# Altium footprint library 1_to_5_Pin.PcbLib: 174 footprints (part 5 of 11)
Each footprint in its own frame and in the unit in brackets; x right, y up, seen from the top. Pads: shape width x height; smd on the part's side, far side on the other; paste and mask are expansions set on the pad; w line width, h text height; cw(c..) or ccw(c..) is an arc to the next point about the centre after c.
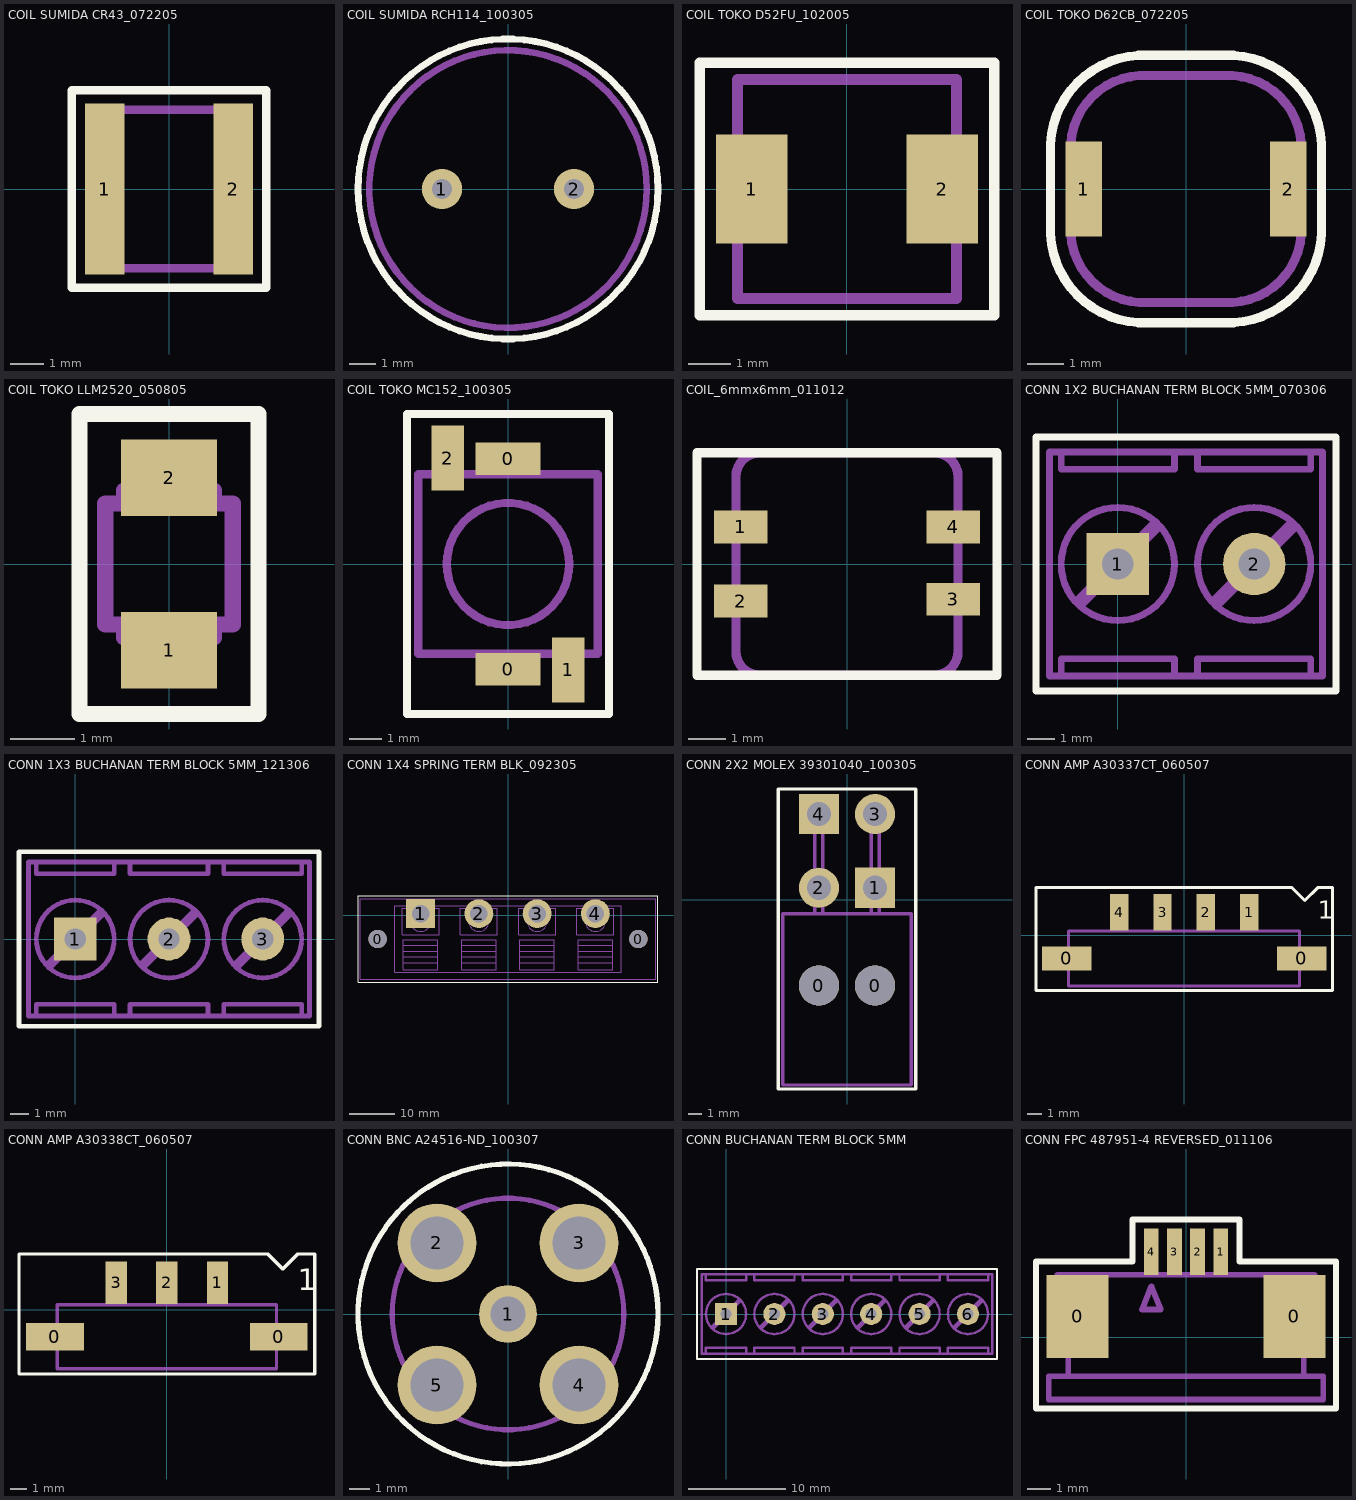
[diagram p4: the footprints below, top view; thin cyan lines are the x and y axes]

## COIL SUMIDA CR43_072205 [mm] "SMT"
height 3.5
pads (2):
  rect 1.2x5.2 smd: 1(-1.95,0) 2(1.95,0)
Top Overlay:
  lines w0.254: -2.95,-3 -2.95,0 -2.95,3 0,3 2.95,3 2.95,0 2.95,-3 0,-3 -2.95,-3
Assembly Outline:
  lines w0.254: 0,2.4 -2.15,2.4 ; -2.15,2.4 -2.15,-2.4 2.15,-2.4 2.15,2.4 -2.15,2.4
Assembly Designator:
  text ".Designator" at -0.875,-0.375 h1.02
Assembly Comment:
  text ".Comment" at -3.225,-4.275 h1.02

## COIL SUMIDA RCH114_100305 [mil] "TH"
height 566.93
pads (2):
  round 60 hole 30: 1(-98.43,0) 2(98.43,0)
Top Overlay:
  circle w10: c0,0 r223.43
Assembly Outline:
  circle w10: c0,0 r206.69
Assembly Designator:
  text ".Designator" at -30.51,-14.76 h40
Assembly Comment:
  text ".Comment" at -149.61,-97.44 h40

## COIL TOKO D52FU_102005 [mm] "SMT"
height 2.2
pads (2):
  rect 1.7x2.6 smd: 1(-2.262,0) 2(2.263,0)
Top Overlay:
  lines w0.254: -3.5,-3 -3.5,0 -3.5,3 2.375,3 3.5,3 3.5,0 3.5,-3 -2.375,-3 -3.5,-3
Assembly Outline:
  lines w0.254: -2.6,-2.6 0,-2.6 2.6,-2.6 2.6,0 2.6,2.6 0,2.6 -2.6,2.6 -2.6,0 -2.6,-2.6
Assembly Designator:
  text ".Designator" at -0.8,-0.35 h1.02
Assembly Comment:
  text ".Comment" at -3.375,-4.375 h1.02

## COIL TOKO D62CB_072205 [mm] "SMT"
height 2.5
pads (2):
  rect 1x2.6 smd: 1(-2.8,0) 2(2.8,0)
Top Overlay:
  lines w0.254: -3.702,-0.969 ccw(c-1.162,-1.112) -1.306,-3.652 1.306,-3.652 ccw(c1.162,-1.112) 3.702,-0.969 3.702,0.969 ccw(c1.162,1.112) 1.306,3.652 -1.306,3.652 ccw(c-1.162,1.112) -3.702,0.969 -3.702,-0.969
Assembly Outline:
  lines w0.254: -3.15,-1 ccw(c-1.163,-1.113) -1.275,-3.1 1.275,-3.1 ccw(c1.163,-1.113) 3.15,-1 3.15,1 ccw(c1.163,1.113) 1.275,3.1 -1.275,3.1 ccw(c-1.163,1.113) -3.15,1 -3.15,-1
Assembly Designator:
  text ".Designator" at -1.35,-0.35 h1.02
Assembly Comment:
  text ".Comment" at -3.4,-4.725 h1.02

## COIL TOKO LLM2520_050805 [mm] "SMT"
height 3.302
pads (2):
  rect 1.5x1.2 smd: 1(0,-1.35) 2(0,1.35)
Top Overlay:
  lines w0.254: -1.4,-2.35 -1.4,0.05 -1.4,2.35 1.4,2.35 1.4,-2.35 -1.4,-2.35
Assembly Outline:
  lines w0.254: 0,-0.95 0,-1.15 ; 0,0.95 0,1.15 ; -0.7,-0.95 0.7,-0.95 ; -0.7,-0.95 -1,-0.95 -1,0.95 -0.7,0.95 ; -0.7,-0.95 -0.7,-1.15 0,-1.15 ; -0.7,0.95 0.7,0.95 ; -0.7,0.95 -0.7,1.15 0,1.15 ; 0,-1.15 0.7,-1.15 0.7,-0.95 ; 0,1.15 0.7,1.15 0.7,0.95 ; 0.7,-0.95 1,-0.95 1,0.95 0.7,0.95
Assembly Designator:
  text ".Designator" at -1.472,-0.714 h1.02
Assembly Comment:
  text ".Comment" at 2.338,-1.476 h1.02

## COIL TOKO MC152_100305 [mm] "SMT"
height 5.2
pads (4):
  rect 2x1 smd: 0(0,-3.225) 0(0,3.225)
  rect 1x2 smd: 1(1.85,-3.25) 2(-1.85,3.25)
Top Overlay:
  lines w0.254: -3.1,-4.6 -3.1,0 -3.1,4.6 0,4.6 3.1,4.6 3.1,0 3.1,-4.6 0,-4.6 -3.1,-4.6
Assembly Outline:
  circle w0.254: c0,0 r1.875
  lines w0.254: -1.85,2.75 -2.1,2.75 -2.1,3.5 -1.6,3.5 -1.6,2.75 ; -0.5,-2.75 -0.5,-3.5 0,-3.5 0.5,-3.5 0.5,-2.75 ; -0.5,2.75 -0.5,3.5 0,3.5 0.5,3.5 0.5,2.75 ; 0,2.75 2.75,2.75 ; 1.6,-2.75 1.6,-3.5 2.1,-3.5 2.1,-2.75 1.85,-2.75 ; 2.75,2.75 -2.75,2.75 -2.75,-2.75 2.75,-2.75 2.75,2.75
Assembly Designator:
  text ".Designator" at -1.025,-0.4 h1.02
Assembly Comment:
  text ".Comment" at -2.375,-6.275 h1.02

## COIL_6mmx6mm_011012 [mil] "SMT"
height 7086.61
pads (4):
  rect 57x35 smd: 1(-113,39.5) 2(-113,-39.5) 3(113,-37.5) 4(113,39.5)
Top Overlay:
  lines w10: -159.45,-118.11 -159.45,118.11 159.45,118.11 159.45,-118.11 -159.45,-118.11
Assembly Outline:
  lines w10: -118,-93 ccw(c-93,-93) -93,-118 93,-118 ccw(c93,-93) 118,-93 118,93 ccw(c93,93) 93,118 -93,118 ccw(c-93,93) -118,93 -118,-93
Assembly Designator:
  text ".Designator" at -62.99,-17.72 h40
Assembly Comment:
  text ".Comment" at -177.17,-173.23 h40

## CONN 1X2 BUCHANAN TERM BLOCK 5MM_070306 [mil] "TH"
height 393.7
pads (2):
  rect 90x90 hole 45: 1(0,0)
  round 90 hole 45: 2(196.85,0)
Top Overlay:
  lines w10: -118.11,-183.07 -118.11,0 -118.11,183.07 -16.73,183.07 314.96,183.07 314.96,0 314.96,-183.07 -118.11,-183.07
Assembly Outline:
  circle w10: c0,0 r81.69
  circle w10: c196.85,0 r81.69
  lines w10: -81.69,-161.42 -81.69,-136.81 0,-136.81 81.69,-136.81 81.69,-161.42 ; -81.69,161.42 -81.69,136.81 0,136.81 81.69,136.81 81.69,161.42 ; 115.16,-161.42 115.16,-136.81 196.85,-136.81 278.54,-136.81 278.54,-161.42 ; 115.16,161.42 115.16,136.81 196.85,136.81 278.54,136.81 278.54,161.42 ; -98.43,-161.42 0,-161.42 295.28,-161.42 295.28,0 295.28,161.42 0,161.42 -98.43,161.42 -98.43,0 -98.43,-161.42
  lines w20: -53.15,-53.15 0,0 53.15,53.15 ; 143.7,-53.15 196.85,0 250,53.15
Assembly Designator:
  text ".Designator" at 61.02,-16.73 h40
Assembly Comment:
  text ".Comment" at 17.72,-136.81 h40

## CONN 1X3 BUCHANAN TERM BLOCK 5MM_121306 [mil] "TH"
height 393.7
pads (3):
  rect 90x90 hole 45: 1(0,0)
  round 90 hole 45: 2(196.85,0) 3(393.7,0)
Top Overlay:
  lines w10: -118.11,-183.07 511.81,-183.07 511.81,0 511.81,183.07 -16.73,183.07 -118.11,183.07 -118.11,0 -118.11,-183.07
Assembly Outline:
  circle w10: c393.7,0 r81.69
  circle w10: c196.85,0 r81.69
  circle w10: c0,0 r81.69
  lines w10: -81.69,-161.42 -81.69,-136.81 0,-136.81 81.69,-136.81 81.69,-161.42 ; -81.69,161.42 -81.69,136.81 0,136.81 81.69,136.81 81.69,161.42 ; 115.16,-161.42 115.16,-136.81 196.85,-136.81 278.54,-136.81 278.54,-161.42 ; 115.16,161.42 115.16,136.81 196.85,136.81 278.54,136.81 278.54,161.42 ; 312.01,-161.42 312.01,-136.81 393.7,-136.81 475.39,-136.81 475.39,-161.42 ; 312.01,161.42 312.01,136.81 393.7,136.81 475.39,136.81 475.39,161.42 ; -98.43,-161.42 -98.43,0 -98.43,161.42 0,161.42 492.13,161.42 492.13,0 492.13,-161.42 0,-161.42 -98.43,-161.42
  lines w20: -53.15,-53.15 0,0 53.15,53.15 ; 143.7,-53.15 196.85,0 250,53.15 ; 340.55,-53.15 393.7,0 446.85,53.15
Assembly Designator:
  text ".Designator" at 61.02,-16.73 h40
Assembly Comment:
  text ".Comment" at 17.72,-136.81 h40

## CONN 1X4 SPRING TERM BLK_092305 [mil] "TH"
height 540
pads (6):
  round 160 hole 160: 0(-1130,-205) 0(1130,-205)
  rect 250x250 hole 150: 1(-757.5,15)
  round 250 hole 150: 2(-252.5,15) 3(252.5,15) 4(757.5,15)
Top Overlay:
  lines w10: -252.5,170 1300,170 1300,-580 -1300,-580 -1300,170 252.5,170
Assembly Outline:
  circle w10: c-757.5,-55 r85
  circle w10: c-252.5,-55 r85
  circle w10: c252.5,-55 r85
  circle w10: c757.5,-55 r85
  lines w10: -607.5,-410 -872.5,-410 -907.5,-410 -907.5,-360 ; -607.5,-360 -872.5,-360 -907.5,-360 ; -607.5,-310 -872.5,-310 -907.5,-310 ; -607.5,-260 -882.5,-260 -907.5,-260 ; -597.5,-55 -597.5,60 ; -102.5,-410 -367.5,-410 -402.5,-410 -402.5,-360 ; -102.5,-360 -367.5,-360 -402.5,-360 ; -102.5,-310 -367.5,-310 -402.5,-310 ; -102.5,-260 -377.5,-260 -402.5,-260 ; -92.5,-55 -92.5,60 ; 402.5,-410 137.5,-410 102.5,-410 102.5,-360 ; 402.5,-360 137.5,-360 102.5,-360 ; 402.5,-310 137.5,-310 102.5,-310 ; 402.5,-260 127.5,-260 102.5,-260 ; 412.5,-55 412.5,60 ; 907.5,-410 642.5,-410 607.5,-410 607.5,-360 ; 907.5,-360 642.5,-360 607.5,-360 ; 907.5,-310 642.5,-310 607.5,-310 ; 907.5,-260 632.5,-260 607.5,-260 ; 917.5,-55 917.5,60 ; 1280,-205 1280,145 ; -907.5,-360 -907.5,-310 ; -907.5,-310 -907.5,-260 ; -907.5,-260 -907.5,-210 ; -907.5,-210 -907.5,-470 -607.5,-470 -607.5,-210 -907.5,-210 ; -597.5,60 -917.5,60 -917.5,-170 -597.5,-170 -597.5,60 ; -402.5,-360 -402.5,-310 ; -402.5,-310 -402.5,-260 ; -402.5,-260 -402.5,-210 ; -402.5,-210 -402.5,-470 -102.5,-470 -102.5,-210 -402.5,-210 ; -92.5,60 -412.5,60 -412.5,-170 -92.5,-170 -92.5,60 ; 102.5,-360 102.5,-310 ; 102.5,-310 102.5,-260 ; 102.5,-260 102.5,-210 ; 102.5,-210 102.5,-470 402.5,-470 402.5,-210 102.5,-210 ; 412.5,60 92.5,60 92.5,-170 412.5,-170 412.5,60 ; 607.5,-360 607.5,-310 ; 607.5,-310 607.5,-260 ; 607.5,-260 607.5,-210 ; 607.5,-210 607.5,-470 907.5,-470 907.5,-210 607.5,-210 ; 917.5,60 597.5,60 597.5,-170 917.5,-170 917.5,60 ; 1280,145 1280,-555 -1280,-555 -1280,145 0,145 1280,145 ; -980,-495 -980,85 980,85 980,-495 -980,-495

## CONN 2X2 MOLEX 39301040_100305 [mm] "TH"
height 9.6
pads (6):
  round 3 hole 3: 0(-2.1,-6.4) 0(2.1,-6.4)
  rect 3x3 hole 1.8: 1(2.1,0.9) 4(-2.1,6.4)
  round 3 hole 1.8: 2(-2.1,0.9) 3(2.1,6.4)
Top Overlay:
  lines w0.254: -5.125,-14.125 0,-14.125 5.125,-14.125 5.125,8.275 0,8.275 -5.125,8.275 -5.125,-14.125
Assembly Outline:
  lines w0.254: -2.4,-1.025 -2.4,6.4 -1.8,6.4 -1.8,-1.025 -2.1,-1.025 ; -2.4,0.9 -2.1,0.9 -1.8,0.9 ; 1.8,-1.025 1.8,6.4 2.4,6.4 2.4,-1.025 2.1,-1.025 ; 1.8,0.9 2.1,0.9 2.4,0.9 ; -4.8,-13.825 4.8,-13.825 4.8,-1.025 -4.8,-1.025 -4.8,-13.825
Assembly Designator:
  text ".Designator" at -0.425,-3.85 h1.02
Assembly Comment:
  text ".Comment" at -3.925,-10.125 h1.02

## CONN AMP A30337CT_060507 [mm] "SMT"
height 9.24
pads (6):
  rect 3.43x1.65 smd: 0(-8.135,-1.6) 0(8.135,-1.6)
  rect 1.27x2.54 smd: 1(4.5,1.6) 2(1.5,1.6) 3(-1.5,1.6) 4(-4.5,1.6)
Top Overlay:
  lines w0.203: -10.263,-3.81 -10.263,3.302 -7.263,3.302 1.5,3.302 7.469,3.302 8.358,2.413 9.247,3.302 10.263,3.302 10.263,-3.81 1.5,-3.81 -7.263,-3.81 -10.263,-3.81
  text "1" at 9.247,1.143 h1.27
Assembly Outline:
  lines w0.203: -8,-2.16 -9.215,-2.16 -9.215,-1.04 -8,-1.04 ; -4.91,0.3 -4.91,2.4 -4.09,2.4 -4.09,0.3 ; -1.91,0.3 -1.91,2.4 -1.09,2.4 -1.09,0.3 ; 1.09,0.3 1.09,2.4 1.91,2.4 1.91,0.3 ; 1.5,0.3 -5,0.3 ; 4.09,0.3 4.09,2.4 4.91,2.4 4.91,0.3 ; 8,-2.16 9.215,-2.16 9.215,-1.04 8,-1.04 ; -5,0.3 8,0.3 8,-3.5 -5,-3.5 -8,-3.5 -8,0.3 -5,0.3
  text "1" at 6.199,1.143 h1.27
Assembly Designator:
  text ".Designator" at -1.04,-2.032 h1.02
Assembly Comment:
  text ".Comment" at -2.945,-5.207 h1.02

## CONN AMP A30338CT_060507 [mm] "SMT"
height 9.24
pads (5):
  rect 3.43x1.65 smd: 0(-6.635,-1.6) 0(6.635,-1.6)
  rect 1.27x2.54 smd: 1(3,1.6) 2(0,1.6) 3(-3,1.6)
Top Overlay:
  lines w0.203: -8.763,-3.81 -8.763,3.302 0,3.302 5.969,3.302 6.858,2.413 7.747,3.302 8.763,3.302 8.763,-3.81 0,-3.81 -8.763,-3.81
  text "1" at 7.747,1.143 h1.27
Assembly Outline:
  lines w0.203: -6.5,-2.16 -7.715,-2.16 -7.715,-1.04 -6.5,-1.04 ; -3.41,0.3 -3.41,2.4 -2.59,2.4 -2.59,0.3 ; -0.41,0.3 -0.41,2.4 0.41,2.4 0.41,0.3 ; 0,0.3 -6.5,0.3 ; 2.59,0.3 2.59,2.4 3.41,2.4 3.41,0.3 ; 6.5,-2.16 7.715,-2.16 7.715,-1.04 6.5,-1.04 ; -6.5,0.3 -6.5,-3.5 6.5,-3.5 6.5,0.3 -6.5,0.3
  text "1" at 4.699,1.143 h1.27
Assembly Designator:
  text ".Designator" at -1.143,-2.032 h1.02
Assembly Comment:
  text ".Comment" at -2.667,-5.334 h1.02

## CONN BNC A24516-ND_100307 [mil] "TH"
height 655
pads (5):
  round 110 hole 67: 1(0,0)
  round 150 hole 100: 2(-135,135) 3(135,135) 4(135,-135) 5(-135,-135)
Top Overlay:
  circle w10: c0,0 r285
Assembly Outline:
  circle w10: c0,0 r220
Assembly Designator:
  text ".Designator" at -20,-15 h40
Assembly Comment:
  text ".Comment" at -65,-115 h40

## CONN BUCHANAN TERM BLOCK 5MM [mil] "TH"
height 393.7
pads (6):
  rect 90x90 hole 45: 1(0,0)
  round 90 hole 45: 2(196.85,0) 3(393.7,0) 4(590.55,0) 5(787.4,0) 6(984.25,0)
Top Overlay:
  lines w10: -118.11,-183.07 -118.11,0 -118.11,183.07 -16.73,183.07 1102.36,183.07 1102.36,0 1102.36,-183.07 1000.98,-183.07 -118.11,-183.07
Assembly Outline:
  circle w10: c0,0 r81.69
  circle w10: c196.85,0 r81.69
  circle w10: c393.7,0 r81.69
  circle w10: c590.55,0 r81.69
  circle w10: c787.4,0 r81.69
  circle w10: c984.25,0 r81.69
  lines w10: -81.69,-161.42 -81.69,-136.81 0,-136.81 81.69,-136.81 81.69,-161.42 ; -81.69,161.42 -81.69,136.81 0,136.81 81.69,136.81 81.69,161.42 ; 115.16,-161.42 115.16,-136.81 196.85,-136.81 278.54,-136.81 278.54,-161.42 ; 115.16,161.42 115.16,136.81 196.85,136.81 278.54,136.81 278.54,161.42 ; 312.01,-161.42 312.01,-136.81 393.7,-136.81 475.39,-136.81 475.39,-161.42 ; 312.01,161.42 312.01,136.81 393.7,136.81 475.39,136.81 475.39,161.42 ; 508.86,-161.42 508.86,-136.81 590.55,-136.81 672.24,-136.81 672.24,-161.42 ; 508.86,161.42 508.86,136.81 590.55,136.81 672.24,136.81 672.24,161.42 ; 705.71,-161.42 705.71,-136.81 787.4,-136.81 869.09,-136.81 869.09,-161.42 ; 705.71,161.42 705.71,136.81 787.4,136.81 869.09,136.81 869.09,161.42 ; 902.56,-161.42 902.56,-136.81 984.25,-136.81 1065.94,-136.81 1065.94,-161.42 ; 902.56,161.42 902.56,136.81 984.25,136.81 1065.94,136.81 1065.94,161.42 ; 0,-161.42 984.25,-161.42 ; 0,-161.42 984.25,-161.42 ; 0,-161.42 -98.43,-161.42 -98.43,0 -98.43,161.42 0,161.42 984.25,161.42 1082.68,161.42 1082.68,0 1082.68,-161.42 984.25,-161.42
  lines w20: -53.15,-53.15 0,0 53.15,53.15 ; 143.7,-53.15 196.85,0 250,53.15 ; 340.55,-53.15 393.7,0 446.85,53.15 ; 537.4,-53.15 590.55,0 643.7,53.15 ; 734.25,-53.15 787.4,0 840.55,53.15 ; 931.1,-53.15 984.25,0 1037.4,53.15
Assembly Designator:
  text ".Designator" at 464.57,-16.73 h40
Assembly Comment:
  text ".Comment" at 145.67,-113.19 h40

## CONN FPC 487951-4 REVERSED_011106 [mm] "SMT"
height 2.54
pads (6):
  rect 2.68x3.6 smd: 0(-4.7,0.9) 0(4.7,0.9)
  rect 0.635x2 smd: 1(1.5,3.7) 2(0.5,3.7) 3(-0.5,3.7) 4(-1.5,3.7)
Top Overlay:
  lines w0.254: -6.5,-3.1 0,-3.1 6.5,-3.1 6.5,0 6.5,2.35 6.5,3.275 2.325,3.275 2.325,5.1 -2.325,5.1 -2.325,3.275 -6.5,3.275 -6.5,2.35 -6.5,0 -6.5,-3.1
Assembly Outline:
  lines w0.254: -5.1,2.7 -5.1,0.05 ; -1.5,2.7 -1.5,3.85 ; -0.5,2.7 -0.5,3.85 ; 0.5,2.7 0.5,3.85 ; 1.5,2.7 1.5,3.85 ; 5.1,2.7 5.1,0.05 ; -5.95,-1.7 -5.1,-1.7 -5.1,0.05 ; -5.95,-1.7 5.95,-1.7 ; -5.95,-1.7 -5.95,-2.7 5.95,-2.7 5.95,-1.7 ; -5.1,0.05 -5.575,0.05 -5.575,2.7 0,2.7 5.575,2.7 5.575,0.05 5.1,0.05 ; 5.1,0.05 5.1,-1.7 5.95,-1.7 ; -1.9,1.2 -1.5,2.2 -1.1,1.2 -1.9,1.2
Assembly Designator:
  text ".Designator" at -1.4,0 h1.02
Assembly Comment:
  text ".Comment" at -4.275,-4.475 h1.02